# EAGLE library part POWER-FLEXCONN (library radish)
6-pin power flex-ribbon connector Make sure to choose the right variant!
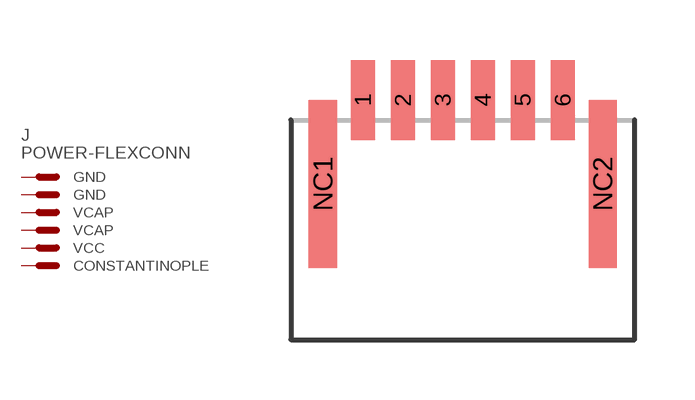
[diagram p8: symbol with the pads of HFW6R_CONNECTOR; footprint HFW6R_CONNECTOR]

Designator prefix J

## POWER-FLEXCONNLOGIC  [HFW6R_CONNECTOR]
1  GND  pwr
2  GND  pwr
3  VCAP  pas
4  VCAP  pas
5  VCC  pas
6  CONSTANTINOPLE  pas

## POWER-FLEXCONNSUPPLY  [HFW6R_CONNECTOR]
1  CONSTANTINOPLE  pas
2  VCC  pas
3  VCAP  pas
4  VCAP  pas
5  GND  pwr
6  GND  pwr

## Footprint HFW6R_CONNECTOR (pad centres in mm)
Flex-cable connector Digikey part 609-1787-1-ND FCI part HFW6R-2STE1LF
smd 0.6 x 2: 1 -2.5,3; 2 -1.5,3; 3 -0.5,3; 4 0.5,3; 5 1.5,3; 6 2.5,3
smd 0.7 x 4.2: NC1 -3.5,0.9; NC2 3.5,0.9